# Altium footprint library RC.PcbLib: 8 footprints
Each footprint in its own frame and in the unit in brackets; x right, y up, seen from the top. Pads: shape width x height; smd on the part's side, far side on the other; paste and mask are expansions set on the pad; w line width, h text height; cw(c..) or ccw(c..) is an arc to the next point about the centre after c.
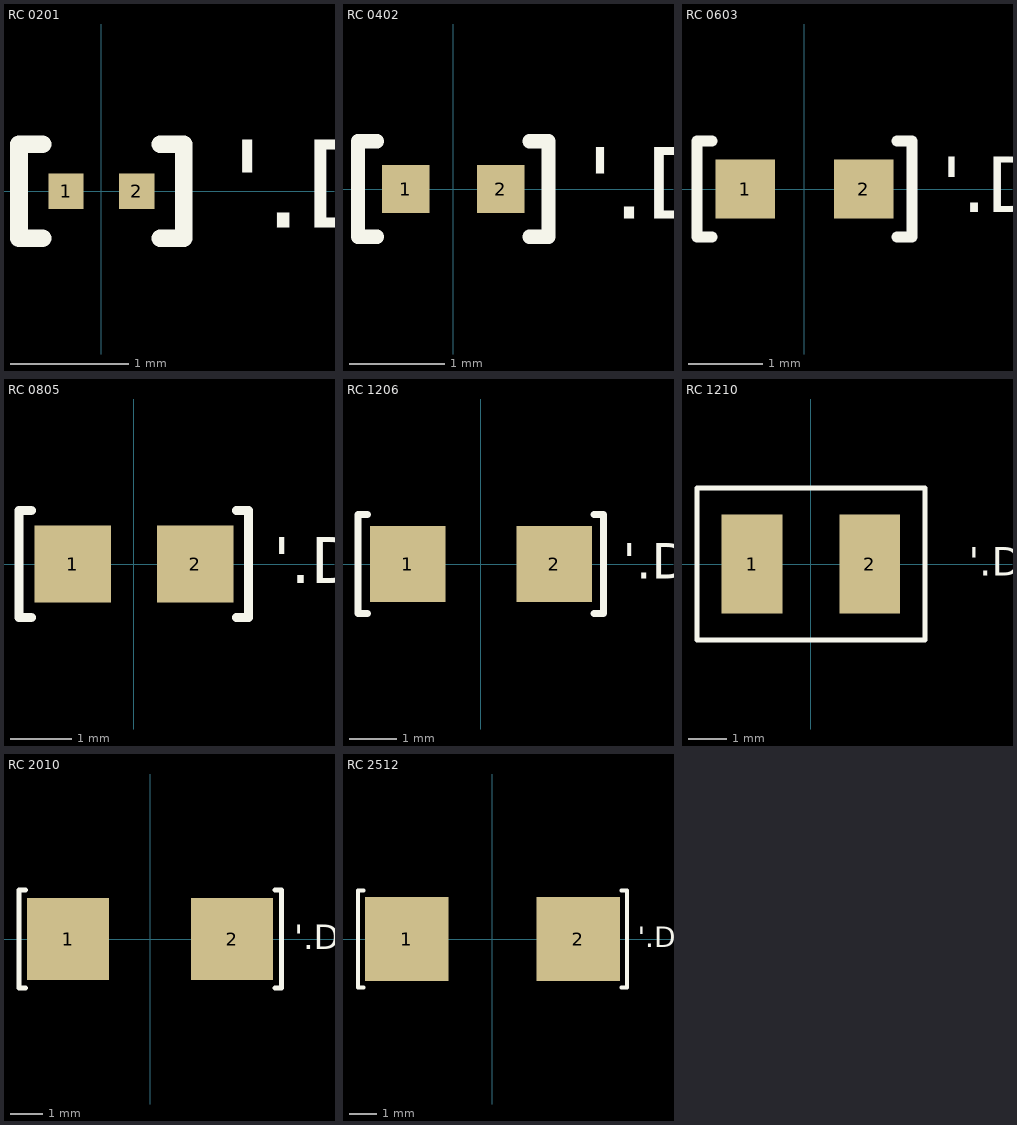
[diagram p0: the footprints below, top view; thin cyan lines are the x and y axes]

## RC 0201 [mm]
pads (2):
  rect 0.3x0.3 smd: 1(-0.3,0) 2(0.3,0)
Top Overlay:
  lines w0.15: -0.5,-0.4 -0.7,-0.4 -0.7,0.4 -0.5,0.4 ; 0.5,-0.4 0.7,-0.4 0.7,0.4 0.5,0.4
  text "'.Designator'" at 1.1,-0.312 h0.75

## RC 0402 [mm]
pads (2):
  rect 0.5x0.5 smd: 1(-0.5,0) 2(0.5,0)
Top Overlay:
  lines w0.15: -0.8,-0.5 -1,-0.5 -1,0.5 -0.8,0.5 ; 0.8,-0.5 1,-0.5 1,0.5 0.8,0.5
  text "'.Designator'" at 1.4,-0.312 h0.75

## RC 0603 [mm]
pads (2):
  rect 0.8x0.8 smd: 1(-0.8,0) 2(0.8,0)
Top Overlay:
  lines w0.15: -1.25,-0.65 -1.45,-0.65 -1.45,0.65 -1.25,0.65 ; 1.25,-0.65 1.45,-0.65 1.45,0.65 1.25,0.65
  text "'.Designator'" at 1.85,-0.312 h0.75

## RC 0805 [mm]
pads (2):
  rect 1.25x1.25 smd: 1(-1,0) 2(1,0)
Top Overlay:
  lines w0.15: -1.675,-0.875 -1.875,-0.875 -1.875,0.875 -1.675,0.875 ; 1.675,-0.875 1.875,-0.875 1.875,0.875 1.675,0.875
  text "'.Designator'" at 2.275,-0.312 h0.75

## RC 1206 [mm]
pads (2):
  rect 1.6x1.6 smd: 1(-1.55,0) 2(1.55,0)
Top Overlay:
  lines w0.15: -2.4,-1.05 -2.6,-1.05 -2.6,1.05 -2.4,1.05 ; 2.4,-1.05 2.6,-1.05 2.6,1.05 2.4,1.05
  text "'.Designator'" at 3,-0.312 h0.75

## RC 1210 [mm]
pads (2):
  rect 1.6x2.6 smd: 1(-1.55,0) 2(1.55,0)
Top Overlay:
  lines w0.127: -3,-2 3,-2 3,2 -3,2 -3,-2
  text "'.Designator'" at 4.15,-0.312 h0.75

## RC 2010 [mm]
pads (2):
  rect 2.5x2.5 smd: 1(-2.5,0) 2(2.5,0)
Top Overlay:
  lines w0.15: -3.8,-1.5 -4,-1.5 -4,1.5 -3.8,1.5 ; 3.8,-1.5 4,-1.5 4,1.5 3.8,1.5
  text "'.Designator'" at 4.4,-0.312 h0.75

## RC 2512 [mm]
pads (2):
  rect 3.1x3.1 smd: 1(-3.175,0) 2(3.175,0)
Top Overlay:
  lines w0.15: -4.775,-1.8 -4.975,-1.8 -4.975,1.8 -4.775,1.8 ; 4.775,-1.8 4.975,-1.8 4.975,1.8 4.775,1.8
  text "'.Designator'" at 5.375,-0.312 h0.75